# EAGLE library part 5-1462037-4 (library Relays)
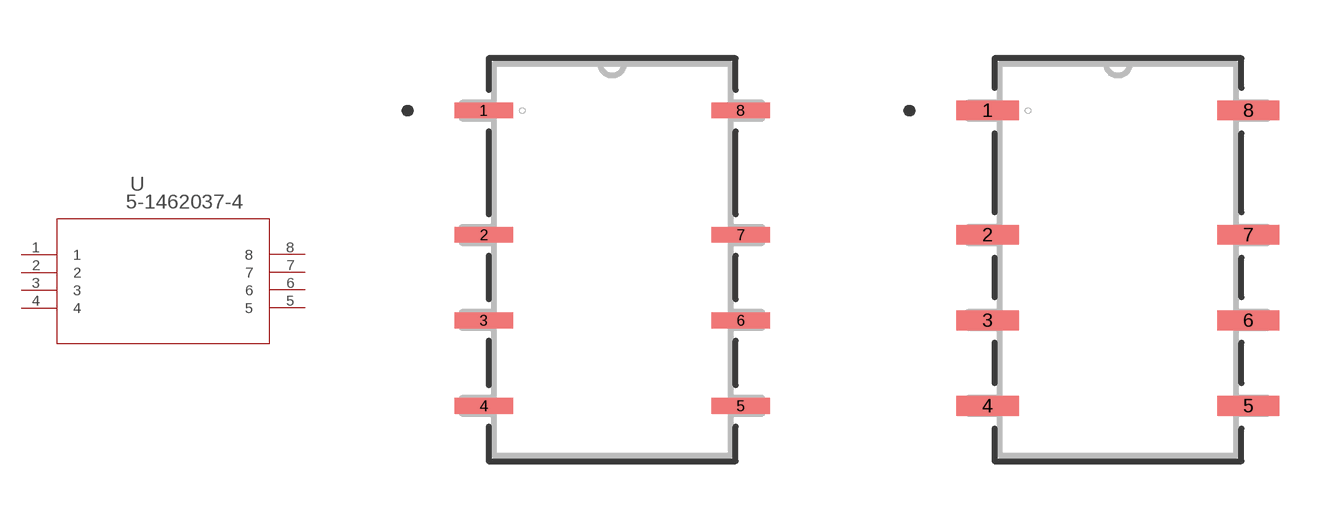
[diagram p73: symbol with the pads of RELAY8_SMT_240X397_222; footprints RELAY8_SMT_240X397_222, RELAY8_SMT_240X397_222-M]

Designator prefix U

## 5-1462037-4 (BUILT_BY: EMA_UL_Team; CATEGORY: Signal Relays; COPYRIGHT: Copyright (C) 2016 Accelerated Designs. All rights reserved; DESCRIPTION: IM41GR=IM RELAY 100 MW 3 V BIS; MANUFACTURER_PART_NUMBER: 5-1462037-4; PART_STATUS: active; SERIES: Axicom IM; VENDOR: TE Connectivity)  [RELAY8_SMT_240X397_222]
1  1  pas
2  2  pas
3  3  pas
4  4  pas
5  5  pas
6  6  pas
7  7  pas
8  8  pas

## 5-1462037-4RELAY8_SMT_240X397_222-M (BUILT_BY: EMA_UL_Team; CATEGORY: Signal Relays; COPYRIGHT: Copyright (C) 2016 Accelerated Designs. All rights reserved; DESCRIPTION: IM41GR=IM RELAY 100 MW 3 V BIS; MANUFACTURER_PART_NUMBER: 5-1462037-4; PART_STATUS: active; SERIES: Axicom IM; VENDOR: TE Connectivity)  [RELAY8_SMT_240X397_222-M]
Pads as for RELAY8_SMT_240X397_222

## 5-1462037-4RELAY8_SMT_240X397_222-L (BUILT_BY: EMA_UL_Team; CATEGORY: Signal Relays; COPYRIGHT: Copyright (C) 2016 Accelerated Designs. All rights reserved; DESCRIPTION: IM41GR=IM RELAY 100 MW 3 V BIS; MANUFACTURER_PART_NUMBER: 5-1462037-4; PART_STATUS: active; SERIES: Axicom IM; VENDOR: TE Connectivity)  [RELAY8_SMT_240X397_222-L]
Pads as for RELAY8_SMT_240X397_222

## Footprint RELAY8_SMT_240X397_222 (pad centres in mm)
smd 1.499 x 0.406: 1 -3.302,3.842; 2 -3.302,0.642; 3 -3.302,-1.558; 4 -3.302,-3.758; 5 3.302,-3.758; 6 3.302,-1.558; 7 3.302,0.642; 8 3.302,3.842

## Footprint RELAY8_SMT_240X397_222-M (pad centres in mm)
smd 1.6 x 0.508: 1 -3.353,3.842; 2 -3.353,0.642; 3 -3.353,-1.558; 4 -3.353,-3.758; 5 3.353,-3.758; 6 3.353,-1.558; 7 3.353,0.642; 8 3.353,3.842

## Footprint RELAY8_SMT_240X397_222-L (pad centres in mm)
smd 1.397 x 0.406: 1 -3.251,3.842; 2 -3.251,0.642; 3 -3.251,-1.558; 4 -3.251,-3.758; 5 3.251,-3.758; 6 3.251,-1.558; 7 3.251,0.642; 8 3.251,3.842